# Altium schematic symbol library Texas instruments.SchLib: 1 symbol
Pins are listed as number, name and electrical type; pins without a type are passive.

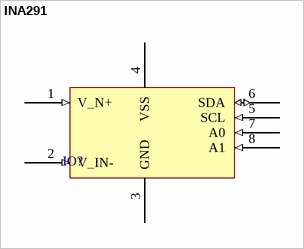
[diagram p0: symbol INA291]

## INA291
designator IO?
Zerø-Drift, Bi-Directional  CURRENT/POWER MONITOR with I2C™ Interface
footprint SOT23-8 (SSOP; 8 Leads; Body Width 1.6 mm; Pitch 0.65 mm)
pins: 1 V_N+ (in), 2 V_IN- (in), 3 GND (power), 4 VSS (power), 5 SCL (in), 6 SDA (io), 7 A0 (in), 8 A1 (in)